# Altium footprint library SnapEDApcb.PcbLib: 1 footprints
Each footprint in its own frame and in the unit in brackets; x right, y up, seen from the top. Pads: shape width x height; smd on the part's side, far side on the other; paste and mask are expansions set on the pad; w line width, h text height; cw(c..) or ccw(c..) is an arc to the next point about the centre after c.
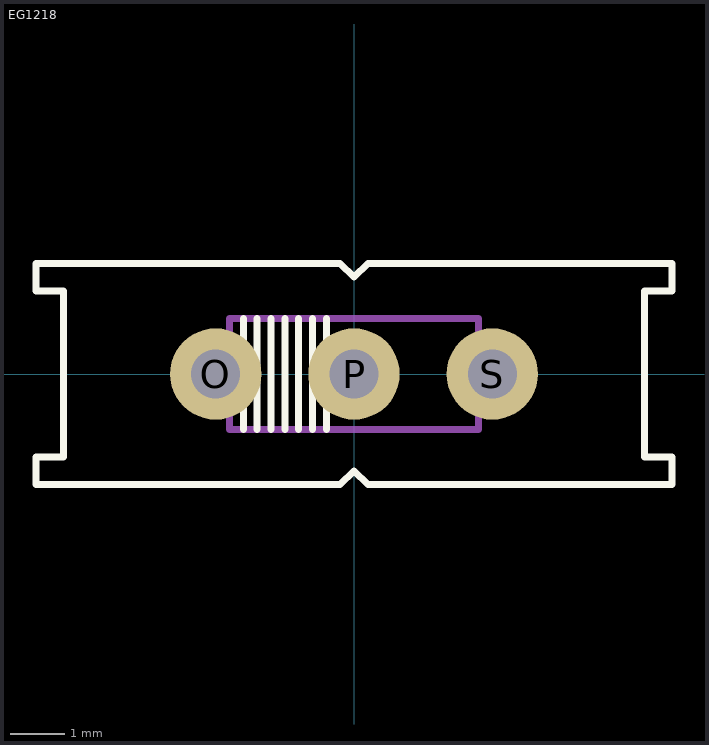
[diagram p0: the footprint, top view; thin cyan lines are the x and y axes]

## EG1218 [mil]
pads (3):
  round 66 hole 35.43: O(-100,0) P(0,0) S(100,0)
Top Overlay:
  lines w5: -80,-40 -80,40 ; -70,-40 -70,40 ; -60,-40 -60,40 ; -50,-40 -50,40 ; -40,-40 -40,40 ; -30,-40 -30,40 ; -20,-40 -20,40 ; -230,-80 -230,-60 -210,-60 -210,60 -230,60 -230,80 -10,80 0,70 10,80 230,80 230,60 210,60 210,-60 230,-60 230,-80 10,-80 0,-70 -10,-80 -230,-80
Mechanical 13:
  lines w5: -90,-40 -90,40 90,40 90,-40 -90,-40
3D body "SlideSwitch.step": height 170.96, standoff -289.79, extent -377.72,-100.32 390,110.32